# EAGLE library part TLW-103-06-G-D (library SAMTEC-Txx_By_element14_Batch_1)
LOW PROFILE HEADER, 6 way
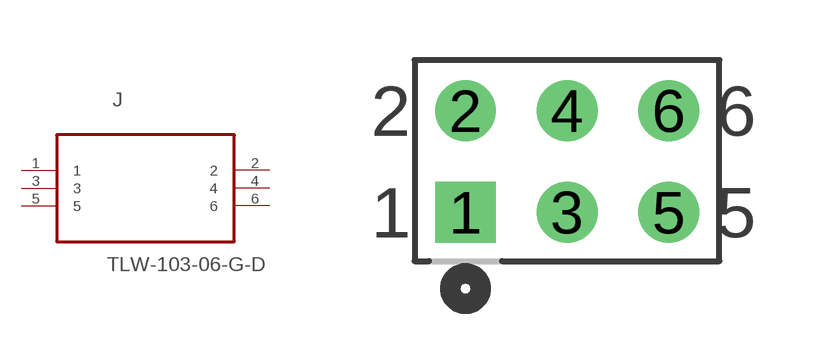
[diagram p130: symbol with the pads of SAMTEC_TLW-103-06-G-D; footprint SAMTEC_TLW-103-06-G-D]

Designator prefix J

## TLW-103-06-G-D (MPN: TLW-103-06-G-D; OC_FARNELL: -; OC_NEWARK: 12P0384; PACKAGE: LOW PROFILE HEADER; SUPPLIER: SAMTEC)  [SAMTEC_TLW-103-06-G-D]
1  1  pas
2  2  pas
3  3  pas
4  4  pas
5  5  pas
6  6  pas

## Footprint SAMTEC_TLW-103-06-G-D (pad centres in mm)
drill 1.016 square: 1 -5.08,-2.54
drill 1.016: 2 -5.08,0; 3 -2.54,-2.54; 4 -2.54,0; 5 0,-2.54; 6 0,0